# Altium footprint library Connector_Molex.PcbLib: 815 footprints (part 6 of 51)
Each footprint in its own frame and in the unit in brackets; x right, y up, seen from the top. Pads: shape width x height; smd on the part's side, far side on the other; paste and mask are expansions set on the pad; w line width, h text height; cw(c..) or ccw(c..) is an arc to the next point about the centre after c.
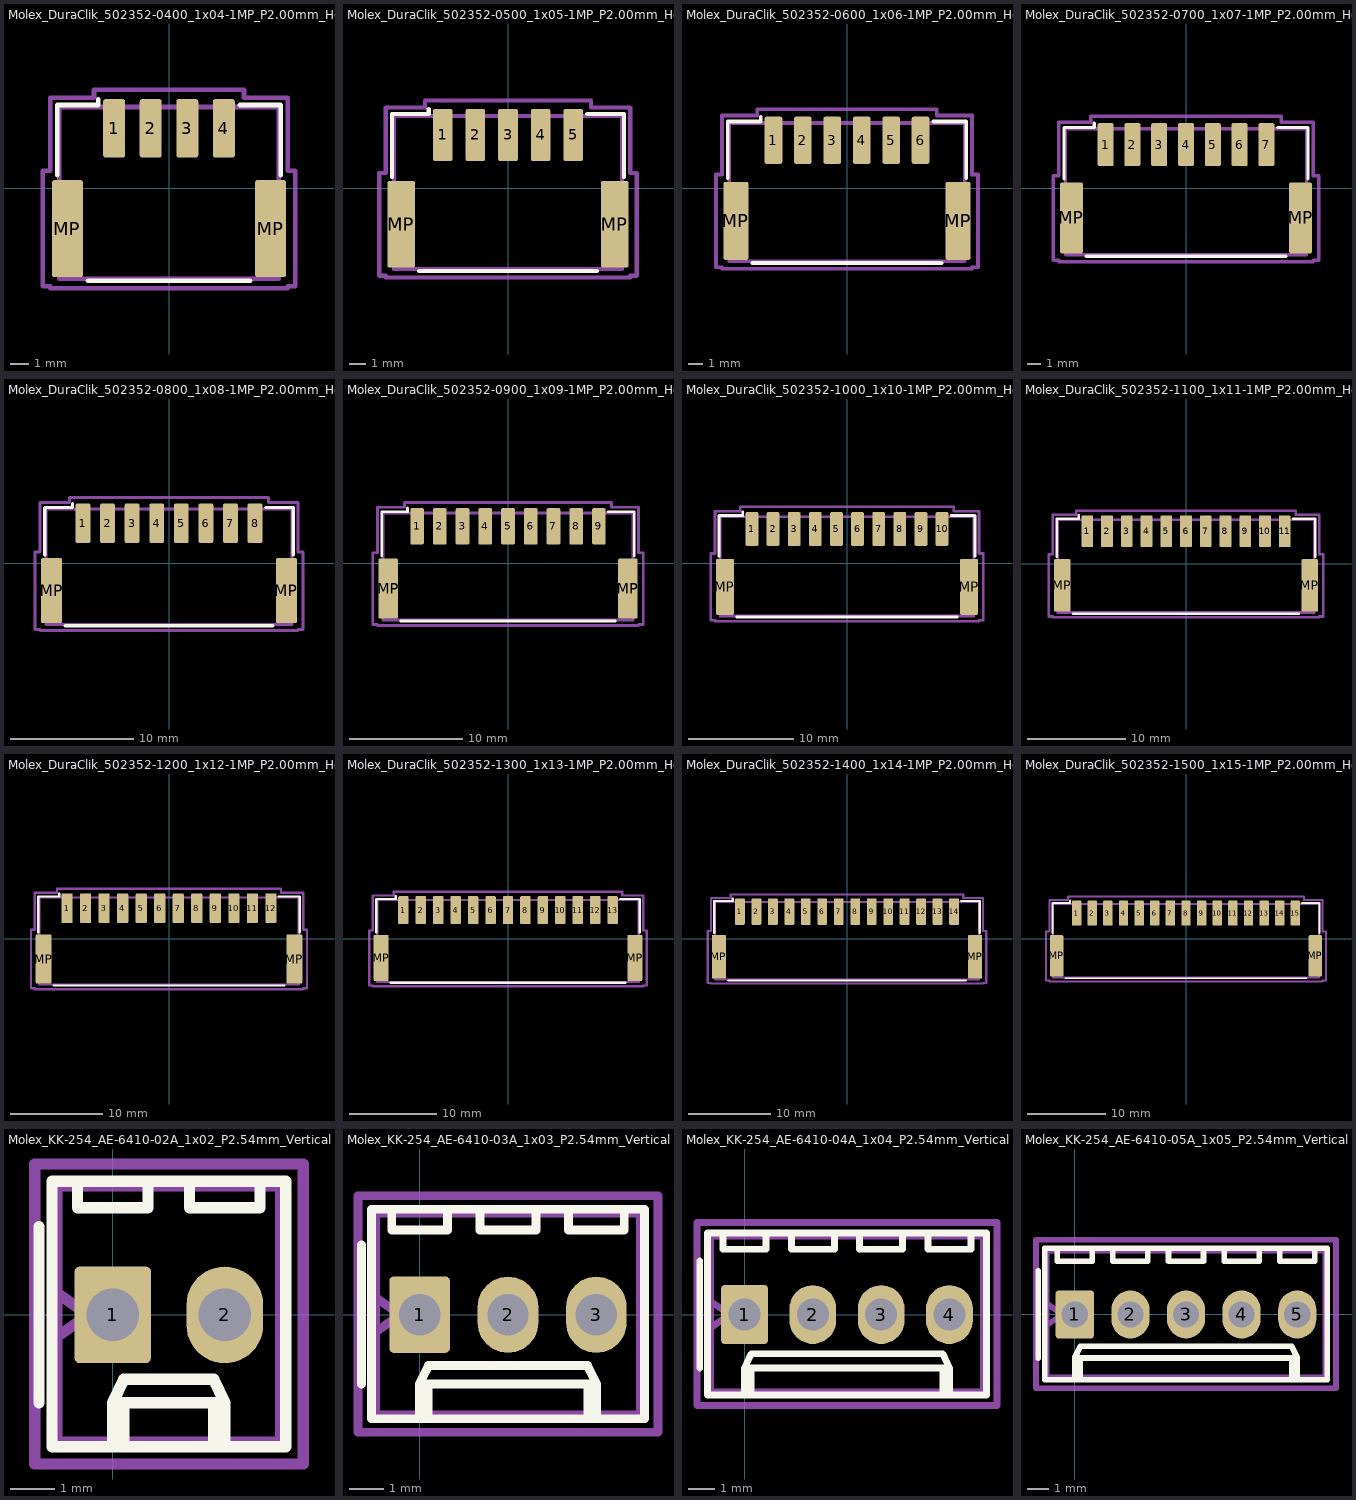
[diagram p5: the footprints below, top view; thin cyan lines are the x and y axes]

## Molex_DuraClik_502352-0400_1x04-1MP_P2.00mm_Horizontal [mm]
pads (6):
  rrect21% 1.2x3.2 smd: 1(-3,3.265) 2(-1,3.265) 3(1,3.265) 4(3,3.265)
  rrect15% 1.7x5.3 smd: MP(-5.55,-2.215) MP(5.55,-2.215)
F.SilkS:
  lines w0.254: -6.11,0.695 -6.11,4.545 -3.86,4.545 -3.86,4.865 ; -4.44,-5.075 4.44,-5.075 ; 3.86,4.545 6.11,4.545 6.11,0.695
Top Assembly:
  lines w0.254: -3.5,4.435 -3,3.728 -2.5,4.435 ; -6,-4.965 6,-4.965 6,4.435 -6,4.435 -6,-4.965
  text "'.Designator'" at -4.047,-1.1 h1
Top Courtyard:
  lines w0.254: -6.9,-5.37 -6.5,-5.37 -6.5,-5.47 6.5,-5.47 6.5,-5.37 6.9,-5.37 6.9,0.94 6.5,0.94 6.5,4.94 4.1,4.94 4.1,5.37 -4.1,5.37 -4.1,4.94 -6.5,4.94 -6.5,0.94 -6.9,0.94 -6.9,-5.37
Top Designator:
  text ".Designator" at -7.618,-0.558 h1.52

## Molex_DuraClik_502352-0500_1x05-1MP_P2.00mm_Horizontal [mm]
pads (7):
  rrect21% 1.2x3.2 smd: 1(-4,3.265) 2(-2,3.265) 3(0,3.265) 4(2,3.265) 5(4,3.265)
  rrect15% 1.7x5.3 smd: MP(-6.55,-2.215) MP(6.55,-2.215)
F.SilkS:
  lines w0.254: -7.11,0.695 -7.11,4.545 -4.86,4.545 -4.86,4.865 ; -5.44,-5.075 5.44,-5.075 ; 4.86,4.545 7.11,4.545 7.11,0.695
Top Assembly:
  lines w0.254: -4.5,4.435 -4,3.728 -3.5,4.435 ; -7,-4.965 7,-4.965 7,4.435 -7,4.435 -7,-4.965
  text "'.Designator'" at -4.047,-1.1 h1
Top Courtyard:
  lines w0.254: -7.9,-5.37 -7.5,-5.37 -7.5,-5.47 7.5,-5.47 7.5,-5.37 7.9,-5.37 7.9,0.94 7.5,0.94 7.5,4.94 5.1,4.94 5.1,5.37 -5.1,5.37 -5.1,4.94 -7.5,4.94 -7.5,0.94 -7.9,0.94 -7.9,-5.37
Top Designator:
  text ".Designator" at -7.618,-0.558 h1.52

## Molex_DuraClik_502352-0600_1x06-1MP_P2.00mm_Horizontal [mm]
pads (8):
  rrect21% 1.2x3.2 smd: 1(-5,3.265) 2(-3,3.265) 3(-1,3.265) 4(1,3.265) 5(3,3.265) 6(5,3.265)
  rrect15% 1.7x5.3 smd: MP(-7.55,-2.215) MP(7.55,-2.215)
F.SilkS:
  lines w0.254: -8.11,0.695 -8.11,4.545 -5.86,4.545 -5.86,4.865 ; -6.44,-5.075 6.44,-5.075 ; 5.86,4.545 8.11,4.545 8.11,0.695
Top Assembly:
  lines w0.254: -5.5,4.435 -5,3.728 -4.5,4.435 ; -8,-4.965 8,-4.965 8,4.435 -8,4.435 -8,-4.965
  text "'.Designator'" at -4.047,-1.1 h1
Top Courtyard:
  lines w0.254: -8.9,-5.37 -8.5,-5.37 -8.5,-5.47 8.5,-5.47 8.5,-5.37 8.9,-5.37 8.9,0.94 8.5,0.94 8.5,4.94 6.1,4.94 6.1,5.37 -6.1,5.37 -6.1,4.94 -8.5,4.94 -8.5,0.94 -8.9,0.94 -8.9,-5.37
Top Designator:
  text ".Designator" at -7.618,-0.558 h1.52

## Molex_DuraClik_502352-0700_1x07-1MP_P2.00mm_Horizontal [mm]
pads (9):
  rrect21% 1.2x3.2 smd: 1(-6,3.265) 2(-4,3.265) 3(-2,3.265) 4(0,3.265) 5(2,3.265) 6(4,3.265) 7(6,3.265)
  rrect15% 1.7x5.3 smd: MP(-8.55,-2.215) MP(8.55,-2.215)
F.SilkS:
  lines w0.254: -9.11,0.695 -9.11,4.545 -6.86,4.545 -6.86,4.865 ; -7.44,-5.075 7.44,-5.075 ; 6.86,4.545 9.11,4.545 9.11,0.695
Top Assembly:
  lines w0.254: -6.5,4.435 -6,3.728 -5.5,4.435 ; -9,-4.965 9,-4.965 9,4.435 -9,4.435 -9,-4.965
  text "'.Designator'" at -4.047,-1.1 h1
Top Courtyard:
  lines w0.254: -9.9,-5.37 -9.5,-5.37 -9.5,-5.47 9.5,-5.47 9.5,-5.37 9.9,-5.37 9.9,0.94 9.5,0.94 9.5,4.94 7.1,4.94 7.1,5.37 -7.1,5.37 -7.1,4.94 -9.5,4.94 -9.5,0.94 -9.9,0.94 -9.9,-5.37
Top Designator:
  text ".Designator" at -7.618,-0.558 h1.52

## Molex_DuraClik_502352-0800_1x08-1MP_P2.00mm_Horizontal [mm]
pads (10):
  rrect21% 1.2x3.2 smd: 1(-7,3.265) 2(-5,3.265) 3(-3,3.265) 4(-1,3.265) 5(1,3.265) 6(3,3.265) 7(5,3.265) 8(7,3.265)
  rrect15% 1.7x5.3 smd: MP(-9.55,-2.215) MP(9.55,-2.215)
F.SilkS:
  lines w0.254: -10.11,0.695 -10.11,4.545 -7.86,4.545 -7.86,4.865 ; -8.44,-5.075 8.44,-5.075 ; 7.86,4.545 10.11,4.545 10.11,0.695
Top Assembly:
  lines w0.254: -7.5,4.435 -7,3.728 -6.5,4.435 ; -10,-4.965 10,-4.965 10,4.435 -10,4.435 -10,-4.965
  text "'.Designator'" at -4.047,-1.1 h1
Top Courtyard:
  lines w0.254: -10.9,-5.37 -10.5,-5.37 -10.5,-5.47 10.5,-5.47 10.5,-5.37 10.9,-5.37 10.9,0.94 10.5,0.94 10.5,4.94 8.1,4.94 8.1,5.37 -8.1,5.37 -8.1,4.94 -10.5,4.94 -10.5,0.94 -10.9,0.94 -10.9,-5.37
Top Designator:
  text ".Designator" at -7.618,-0.558 h1.52

## Molex_DuraClik_502352-0900_1x09-1MP_P2.00mm_Horizontal [mm]
pads (11):
  rrect21% 1.2x3.2 smd: 1(-8,3.265) 2(-6,3.265) 3(-4,3.265) 4(-2,3.265) 5(0,3.265) 6(2,3.265) 7(4,3.265) 8(6,3.265) 9(8,3.265)
  rrect15% 1.7x5.3 smd: MP(-10.55,-2.215) MP(10.55,-2.215)
F.SilkS:
  lines w0.254: -11.11,0.695 -11.11,4.545 -8.86,4.545 -8.86,4.865 ; -9.44,-5.075 9.44,-5.075 ; 8.86,4.545 11.11,4.545 11.11,0.695
Top Assembly:
  lines w0.254: -8.5,4.435 -8,3.728 -7.5,4.435 ; -11,-4.965 11,-4.965 11,4.435 -11,4.435 -11,-4.965
  text "'.Designator'" at -4.047,-1.1 h1
Top Courtyard:
  lines w0.254: -11.9,-5.37 -11.5,-5.37 -11.5,-5.47 11.5,-5.47 11.5,-5.37 11.9,-5.37 11.9,0.94 11.5,0.94 11.5,4.94 9.1,4.94 9.1,5.37 -9.1,5.37 -9.1,4.94 -11.5,4.94 -11.5,0.94 -11.9,0.94 -11.9,-5.37
Top Designator:
  text ".Designator" at -7.618,-0.558 h1.52

## Molex_DuraClik_502352-1000_1x10-1MP_P2.00mm_Horizontal [mm]
pads (12):
  rrect21% 1.2x3.2 smd: 1(-9,3.265) 2(-7,3.265) 3(-5,3.265) 4(-3,3.265) 5(-1,3.265) 6(1,3.265) 7(3,3.265) 8(5,3.265) 9(7,3.265) 10(9,3.265)
  rrect15% 1.7x5.3 smd: MP(-11.55,-2.215) MP(11.55,-2.215)
F.SilkS:
  lines w0.254: -12.11,0.695 -12.11,4.545 -9.86,4.545 -9.86,4.865 ; -10.44,-5.075 10.44,-5.075 ; 9.86,4.545 12.11,4.545 12.11,0.695
Top Assembly:
  lines w0.254: -9.5,4.435 -9,3.728 -8.5,4.435 ; -12,-4.965 12,-4.965 12,4.435 -12,4.435 -12,-4.965
  text "'.Designator'" at -4.047,-1.1 h1
Top Courtyard:
  lines w0.254: -12.9,-5.37 -12.5,-5.37 -12.5,-5.47 12.5,-5.47 12.5,-5.37 12.9,-5.37 12.9,0.94 12.5,0.94 12.5,4.94 10.1,4.94 10.1,5.37 -10.1,5.37 -10.1,4.94 -12.5,4.94 -12.5,0.94 -12.9,0.94 -12.9,-5.37
Top Designator:
  text ".Designator" at -7.618,-0.558 h1.52

## Molex_DuraClik_502352-1100_1x11-1MP_P2.00mm_Horizontal [mm]
pads (13):
  rrect21% 1.2x3.2 smd: 1(-10,3.265) 2(-8,3.265) 3(-6,3.265) 4(-4,3.265) 5(-2,3.265) 6(0,3.265) 7(2,3.265) 8(4,3.265) 9(6,3.265) 10(8,3.265) 11(10,3.265)
  rrect15% 1.7x5.3 smd: MP(-12.55,-2.215) MP(12.55,-2.215)
F.SilkS:
  lines w0.254: -13.11,0.695 -13.11,4.545 -10.86,4.545 -10.86,4.865 ; -11.44,-5.075 11.44,-5.075 ; 10.86,4.545 13.11,4.545 13.11,0.695
Top Assembly:
  lines w0.254: -10.5,4.435 -10,3.728 -9.5,4.435 ; -13,-4.965 13,-4.965 13,4.435 -13,4.435 -13,-4.965
  text "'.Designator'" at -4.047,-1.1 h1
Top Courtyard:
  lines w0.254: -13.9,-5.37 -13.5,-5.37 -13.5,-5.47 13.5,-5.47 13.5,-5.37 13.9,-5.37 13.9,0.94 13.5,0.94 13.5,4.94 11.1,4.94 11.1,5.37 -11.1,5.37 -11.1,4.94 -13.5,4.94 -13.5,0.94 -13.9,0.94 -13.9,-5.37
Top Designator:
  text ".Designator" at -7.618,-0.558 h1.52

## Molex_DuraClik_502352-1200_1x12-1MP_P2.00mm_Horizontal [mm]
pads (14):
  rrect21% 1.2x3.2 smd: 1(-11,3.265) 2(-9,3.265) 3(-7,3.265) 4(-5,3.265) 5(-3,3.265) 6(-1,3.265) 7(1,3.265) 8(3,3.265) 9(5,3.265) 10(7,3.265) 11(9,3.265) 12(11,3.265)
  rrect15% 1.7x5.3 smd: MP(-13.55,-2.215) MP(13.55,-2.215)
F.SilkS:
  lines w0.254: -14.11,0.695 -14.11,4.545 -11.86,4.545 -11.86,4.865 ; -12.44,-5.075 12.44,-5.075 ; 11.86,4.545 14.11,4.545 14.11,0.695
Top Assembly:
  lines w0.254: -11.5,4.435 -11,3.728 -10.5,4.435 ; -14,-4.965 14,-4.965 14,4.435 -14,4.435 -14,-4.965
  text "'.Designator'" at -4.047,-1.1 h1
Top Courtyard:
  lines w0.254: -14.9,-5.37 -14.5,-5.37 -14.5,-5.47 14.5,-5.47 14.5,-5.37 14.9,-5.37 14.9,0.94 14.5,0.94 14.5,4.94 12.1,4.94 12.1,5.37 -12.1,5.37 -12.1,4.94 -14.5,4.94 -14.5,0.94 -14.9,0.94 -14.9,-5.37
Top Designator:
  text ".Designator" at -7.618,-0.558 h1.52

## Molex_DuraClik_502352-1300_1x13-1MP_P2.00mm_Horizontal [mm]
pads (15):
  rrect21% 1.2x3.2 smd: 1(-12,3.265) 2(-10,3.265) 3(-8,3.265) 4(-6,3.265) 5(-4,3.265) 6(-2,3.265) 7(0,3.265) 8(2,3.265) 9(4,3.265) 10(6,3.265) 11(8,3.265) 12(10,3.265) 13(12,3.265)
  rrect15% 1.7x5.3 smd: MP(-14.55,-2.215) MP(14.55,-2.215)
F.SilkS:
  lines w0.254: -15.11,0.695 -15.11,4.545 -12.86,4.545 -12.86,4.865 ; -13.44,-5.075 13.44,-5.075 ; 12.86,4.545 15.11,4.545 15.11,0.695
Top Assembly:
  lines w0.254: -12.5,4.435 -12,3.728 -11.5,4.435 ; -15,-4.965 15,-4.965 15,4.435 -15,4.435 -15,-4.965
  text "'.Designator'" at -4.047,-1.1 h1
Top Courtyard:
  lines w0.254: -15.9,-5.37 -15.5,-5.37 -15.5,-5.47 15.5,-5.47 15.5,-5.37 15.9,-5.37 15.9,0.94 15.5,0.94 15.5,4.94 13.1,4.94 13.1,5.37 -13.1,5.37 -13.1,4.94 -15.5,4.94 -15.5,0.94 -15.9,0.94 -15.9,-5.37
Top Designator:
  text ".Designator" at -7.618,-0.558 h1.52

## Molex_DuraClik_502352-1400_1x14-1MP_P2.00mm_Horizontal [mm]
pads (16):
  rrect21% 1.2x3.2 smd: 1(-13,3.265) 2(-11,3.265) 3(-9,3.265) 4(-7,3.265) 5(-5,3.265) 6(-3,3.265) 7(-1,3.265) 8(1,3.265) 9(3,3.265) 10(5,3.265) 11(7,3.265) 12(9,3.265) 13(11,3.265) 14(13,3.265)
  rrect15% 1.7x5.3 smd: MP(-15.55,-2.215) MP(15.55,-2.215)
F.SilkS:
  lines w0.254: -16.11,0.695 -16.11,4.545 -13.86,4.545 -13.86,4.865 ; -14.44,-5.075 14.44,-5.075 ; 13.86,4.545 16.11,4.545 16.11,0.695
Top Assembly:
  lines w0.254: -13.5,4.435 -13,3.728 -12.5,4.435 ; -16,-4.965 16,-4.965 16,4.435 -16,4.435 -16,-4.965
  text "'.Designator'" at -4.047,-1.1 h1
Top Courtyard:
  lines w0.254: -16.9,-5.37 -16.5,-5.37 -16.5,-5.47 16.5,-5.47 16.5,-5.37 16.9,-5.37 16.9,0.94 16.5,0.94 16.5,4.94 14.1,4.94 14.1,5.37 -14.1,5.37 -14.1,4.94 -16.5,4.94 -16.5,0.94 -16.9,0.94 -16.9,-5.37
Top Designator:
  text ".Designator" at -7.618,-0.558 h1.52

## Molex_DuraClik_502352-1500_1x15-1MP_P2.00mm_Horizontal [mm]
pads (17):
  rrect21% 1.2x3.2 smd: 1(-14,3.265) 2(-12,3.265) 3(-10,3.265) 4(-8,3.265) 5(-6,3.265) 6(-4,3.265) 7(-2,3.265) 8(0,3.265) 9(2,3.265) 10(4,3.265) 11(6,3.265) 12(8,3.265) 13(10,3.265) 14(12,3.265) 15(14,3.265)
  rrect15% 1.7x5.3 smd: MP(-16.55,-2.215) MP(16.55,-2.215)
F.SilkS:
  lines w0.254: -17.11,0.695 -17.11,4.545 -14.86,4.545 -14.86,4.865 ; -15.44,-5.075 15.44,-5.075 ; 14.86,4.545 17.11,4.545 17.11,0.695
Top Assembly:
  lines w0.254: -14.5,4.435 -14,3.728 -13.5,4.435 ; -17,-4.965 17,-4.965 17,4.435 -17,4.435 -17,-4.965
  text "'.Designator'" at -4.047,-1.1 h1
Top Courtyard:
  lines w0.254: -17.9,-5.37 -17.5,-5.37 -17.5,-5.47 17.5,-5.47 17.5,-5.37 17.9,-5.37 17.9,0.94 17.5,0.94 17.5,4.94 15.1,4.94 15.1,5.37 -15.1,5.37 -15.1,4.94 -17.5,4.94 -17.5,0.94 -17.9,0.94 -17.9,-5.37
Top Designator:
  text ".Designator" at -7.618,-0.558 h1.52

## Molex_KK-254_AE-6410-02A_1x02_P2.54mm_Vertical [mm]
pads (2):
  rrect14% 1.74x2.19 hole 1.19: 1(0,0)
  rrect100% 1.74x2.19 hole 1.19: 2(2.54,0)
F.SilkS:
  lines w0.254: -1.67,-2 -1.67,2 ; -0.8,3.03 -0.8,2.43 0.8,2.43 0.8,3.03 ; 0,-2.99 0,-1.99 ; 0.25,-2.99 0.25,-1.99 ; 1.74,3.03 1.74,2.43 3.34,2.43 3.34,3.03 ; 2.29,-2.99 2.29,-1.99 ; 2.54,-2.99 2.54,-1.99 ; 0,-1.99 2.54,-1.99 ; 0,-1.99 0.25,-1.46 2.29,-1.46 2.54,-1.99 ; -1.38,-2.99 3.92,-2.99 3.92,3.03 -1.38,3.03 -1.38,-2.99
Top Assembly:
  lines w0.254: -1.27,-0.5 -0.563,0 -1.27,0.5 ; -1.27,-2.88 3.81,-2.88 3.81,2.92 -1.27,2.92 -1.27,-2.88
  text "'.Designator'" at -2.777,1.38 h1
Top Courtyard:
  lines w0.254: -1.77,-3.38 4.32,-3.38 4.32,3.42 -1.77,3.42 -1.77,-3.38
Top Designator:
  text ".Designator" at -6.498,-0.488 h1.52

## Molex_KK-254_AE-6410-03A_1x03_P2.54mm_Vertical [mm]
pads (3):
  rrect14% 1.74x2.19 hole 1.19: 1(0,0)
  rrect100% 1.74x2.19 hole 1.19: 2(2.54,0) 3(5.08,0)
F.SilkS:
  lines w0.254: -1.67,-2 -1.67,2 ; -0.8,3.03 -0.8,2.43 0.8,2.43 0.8,3.03 ; 0,-2.99 0,-1.99 ; 0.25,-2.99 0.25,-1.99 ; 1.74,3.03 1.74,2.43 3.34,2.43 3.34,3.03 ; 4.28,3.03 4.28,2.43 5.88,2.43 5.88,3.03 ; 4.83,-2.99 4.83,-1.99 ; 5.08,-2.99 5.08,-1.99 ; 0,-1.99 5.08,-1.99 ; 0,-1.99 0.25,-1.46 4.83,-1.46 5.08,-1.99 ; -1.38,-2.99 6.46,-2.99 6.46,3.03 -1.38,3.03 -1.38,-2.99
Top Assembly:
  lines w0.254: -1.27,-0.5 -0.563,0 -1.27,0.5 ; -1.27,-2.88 6.35,-2.88 6.35,2.92 -1.27,2.92 -1.27,-2.88
  text "'.Designator'" at -1.507,1.38 h1
Top Courtyard:
  lines w0.254: -1.77,-3.38 6.85,-3.38 6.85,3.42 -1.77,3.42 -1.77,-3.38
Top Designator:
  text ".Designator" at -5.078,-0.488 h1.52

## Molex_KK-254_AE-6410-04A_1x04_P2.54mm_Vertical [mm]
pads (4):
  rrect14% 1.74x2.19 hole 1.19: 1(0,0)
  rrect100% 1.74x2.19 hole 1.19: 2(2.54,0) 3(5.08,0) 4(7.62,0)
F.SilkS:
  lines w0.254: -1.67,-2 -1.67,2 ; -0.8,3.03 -0.8,2.43 0.8,2.43 0.8,3.03 ; 0,-2.99 0,-1.99 ; 0.25,-2.99 0.25,-1.99 ; 1.74,3.03 1.74,2.43 3.34,2.43 3.34,3.03 ; 4.28,3.03 4.28,2.43 5.88,2.43 5.88,3.03 ; 6.82,3.03 6.82,2.43 8.42,2.43 8.42,3.03 ; 7.37,-2.99 7.37,-1.99 ; 7.62,-2.99 7.62,-1.99 ; 0,-1.99 7.62,-1.99 ; 0,-1.99 0.25,-1.46 7.37,-1.46 7.62,-1.99 ; -1.38,-2.99 9,-2.99 9,3.03 -1.38,3.03 -1.38,-2.99
Top Assembly:
  lines w0.254: -1.27,-0.5 -0.563,0 -1.27,0.5 ; -1.27,-2.88 8.89,-2.88 8.89,2.92 -1.27,2.92 -1.27,-2.88
  text "'.Designator'" at -0.237,1.38 h1
Top Courtyard:
  lines w0.254: -1.77,-3.38 9.39,-3.38 9.39,3.42 -1.77,3.42 -1.77,-3.38
Top Designator:
  text ".Designator" at -3.808,-0.488 h1.52

## Molex_KK-254_AE-6410-05A_1x05_P2.54mm_Vertical [mm]
pads (5):
  rrect14% 1.74x2.19 hole 1.19: 1(0,0)
  rrect100% 1.74x2.19 hole 1.19: 2(2.54,0) 3(5.08,0) 4(7.62,0) 5(10.16,0)
F.SilkS:
  lines w0.254: -1.67,-2 -1.67,2 ; -0.8,3.03 -0.8,2.43 0.8,2.43 0.8,3.03 ; 0,-2.99 0,-1.99 ; 0.25,-2.99 0.25,-1.99 ; 1.74,3.03 1.74,2.43 3.34,2.43 3.34,3.03 ; 4.28,3.03 4.28,2.43 5.88,2.43 5.88,3.03 ; 6.82,3.03 6.82,2.43 8.42,2.43 8.42,3.03 ; 9.36,3.03 9.36,2.43 10.96,2.43 10.96,3.03 ; 9.91,-2.99 9.91,-1.99 ; 10.16,-2.99 10.16,-1.99 ; 0,-1.99 10.16,-1.99 ; 0,-1.99 0.25,-1.46 9.91,-1.46 10.16,-1.99 ; -1.38,-2.99 11.54,-2.99 11.54,3.03 -1.38,3.03 -1.38,-2.99
Top Assembly:
  lines w0.254: -1.27,-0.5 -0.563,0 -1.27,0.5 ; -1.27,-2.88 11.43,-2.88 11.43,2.92 -1.27,2.92 -1.27,-2.88
  text "'.Designator'" at 1.033,1.38 h1
Top Courtyard:
  lines w0.254: -1.77,-3.38 11.93,-3.38 11.93,3.42 -1.77,3.42 -1.77,-3.38
Top Designator:
  text ".Designator" at -2.538,-0.488 h1.52